# EAGLE library part 750315856 (library Wurth_Power Magnetics_WE-IBTI)
WE-IBTI Isolated Buck Transformers Characteristics Flybuck™ topology Operating Temp: -40°C to +125°C Excellent leakage inductance and interwinding capacitance performance Applications Industrial Programmable Logic Controllers (PLCs) Building automation and process control Isolated interface power: RS-422, RS-485, CAN, I2C, LAN Motor drive control, inverters and industrial automation Isolated low power drivers & regulators, smart e-meters Bias power supplies for gate drives and op-amps <https://www.we-online.com/components/media/o790826v209%20family-MID-IBTI.1673.jpg> Details see: www.we-online.com/en/components/products/WE-IBTI <www.we-online.com/catalog/WE-IBTI/?utm_source=eagle_model&utm_medium=description_link&utm_campaign=eisos_eagle> Created by Ella Wu 2024-06-07 2024 (C) Wurth Elektronik
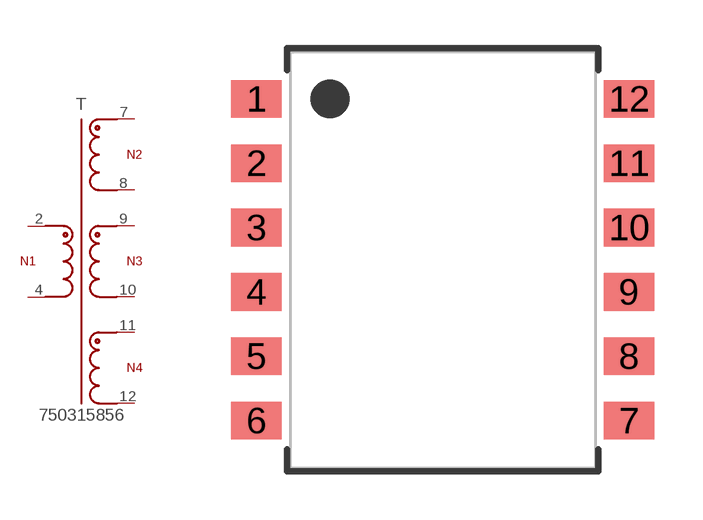
[diagram p11: symbol with the pads of WE-IBTI_ER11.5_L12.95W12.7H5.98; footprint WE-IBTI_ER11.5_L12.95W12.7H5.98]

Designator prefix T

## 750315856 (DATASHEET-URL: https://www.we-online.com/redexpert/spec/750315856?ae; FSWITCH: 250kHz; HEIGHT: 6.35mm; IOUT1: 40mA; IOUT2: 50mA; IOUT3: 20mA; ISAT: 0.65A; L: 120uH; LENGTH: 12.95mm; LS: 5000nH; MOUNT: SMT; N: 1 : 3 : 0.56 : 0.56; PART-NUMBER: 750315856; SIZE: ER11.5; VALUE: 750315856; VBUCK: 9V; VIN: 16 - 36 V (DC); VOUT1: 27V; VOUT2: 5V; VOUT3: -5V; VT: 625V(AC); WIDTH: 12.85mm)  [WE-IBTI_ER11.5_L12.95W12.7H5.98]
2  2  pas
4  4  pas
7  7  pas
8  8  pas
9  9  pas
10  10  pas
11  11  pas
12  12  pas

## Footprint WE-IBTI_ER11.5_L12.95W12.7H5.98 (pad centres in mm)
WE-IBTI Isolated Buck Transformers Size: ER11.5,SMT,12pins LXWXH=12.95X12.7X5.98mm
smd 1.57 x 1.17: 1 -5.79,5; 2 -5.79,3; 3 -5.79,1; 4 -5.79,-1; 5 -5.79,-3; 6 -5.79,-5; 7 5.79,-5; 8 5.79,-3; 9 5.79,-1; 10 5.79,1; 11 5.79,3; 12 5.79,5